# Altium footprint library SOP-4_4.1x4.4x2.54P.PcbLib: 1 footprints
Each footprint in its own frame and in the unit in brackets; x right, y up, seen from the top. Pads: shape width x height; smd on the part's side, far side on the other; paste and mask are expansions set on the pad; w line width, h text height; cw(c..) or ccw(c..) is an arc to the next point about the centre after c.
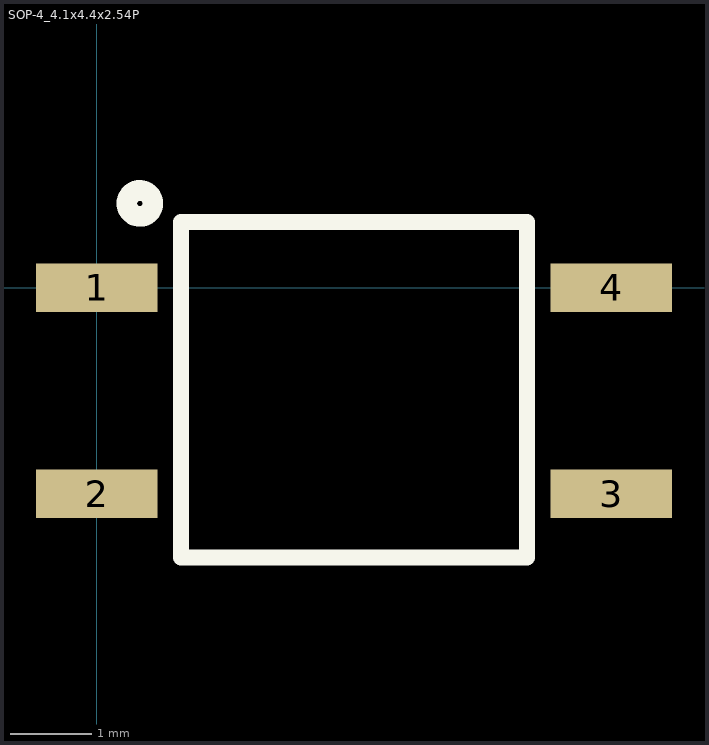
[diagram p0: the footprint, top view; thin cyan lines are the x and y axes]

## SOP-4_4.1x4.4x2.54P [mm]
pads (4):
  rect 1.5x0.6 smd: 1(0,0) 2(0,-2.54) 3(6.35,-2.54) 4(6.35,0)
Top Overlay:
  circle w0.254: c0.533,1.041 r0.161
  lines w0.2: 1.041,-3.327 5.309,-3.327 5.309,0.813 1.041,0.813 1.041,-3.327
3D body "4_PIN_SOP.x_t": height 1.94, standoff 0, extent -0.325,-3.32 6.675,0.78